# Altium schematic symbol library BLDC_SCH_LIB.SchLib: 30 symbols
Pins are listed as number, name and electrical type; pins without a type are passive.

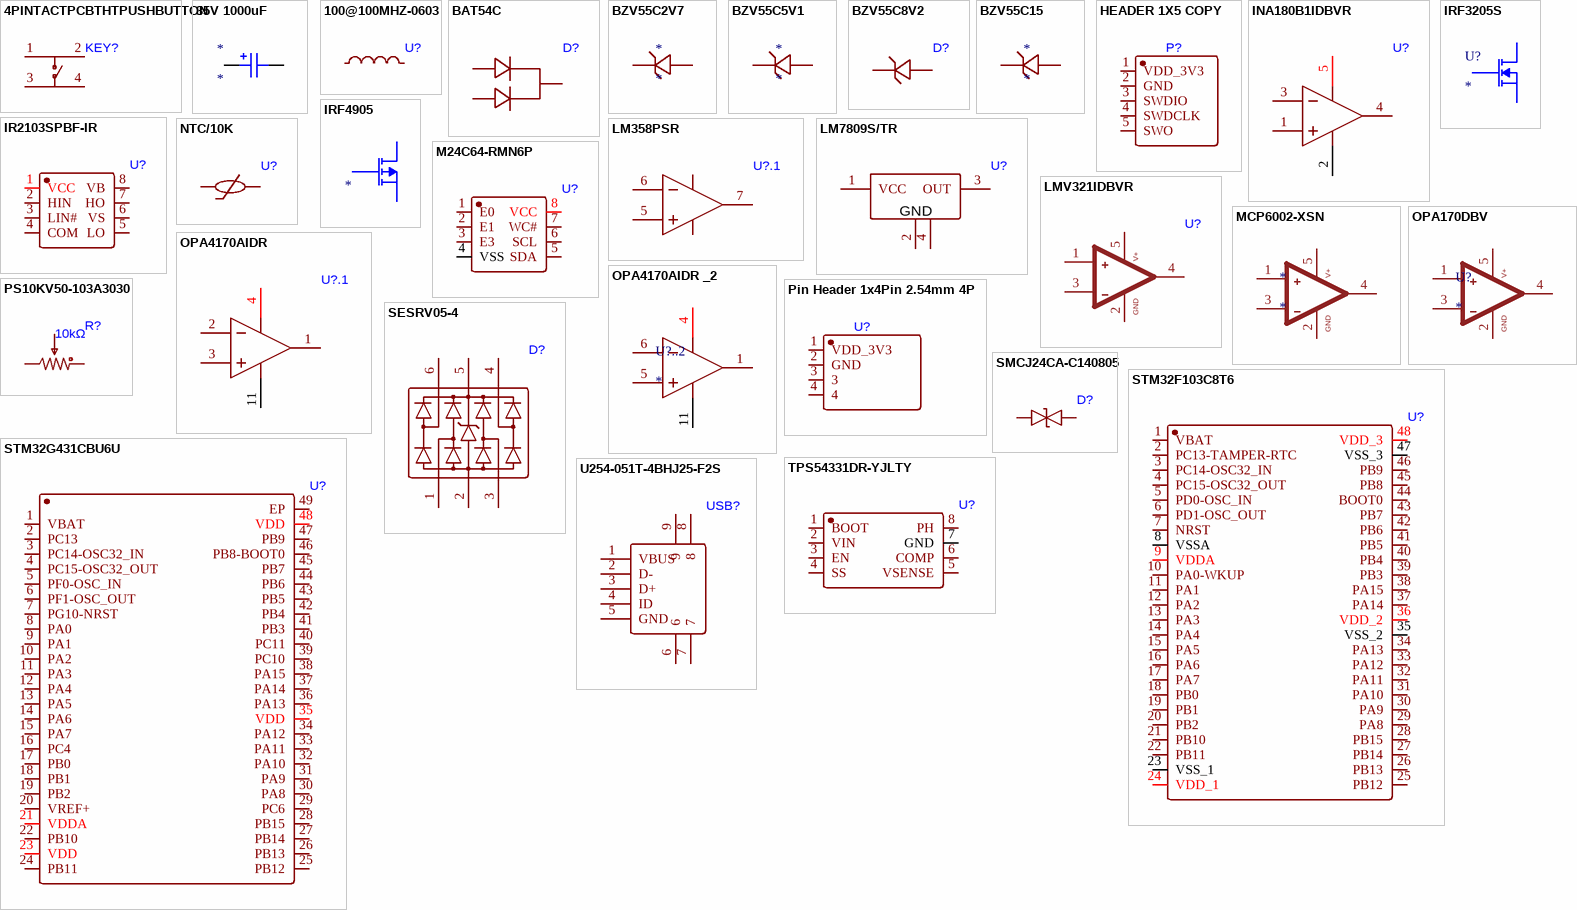
[diagram p0: symbols 4PINTACTPCBTHTPUSHBUTTON to U254-051T-4BHJ25-F2S]

## 4PINTACTPCBTHTPUSHBUTTON
designator KEY?
footprint SW-SMD_4P-L6.0-W6.0-P4.50-LS10.0_TL3301EF160QG
pins: 1, 2, 3, 4

## 35V 1000uF
designator *
footprint 35V 1000uF
pins: 1 in, 2 out

## 100@100MHZ-0603
designator U?
footprint L0603
pins: 1, 2

## BAT54C
designator D?
footprint SOT-23-3_L2.9-W1.6-P1.90-LS2.8-BR
pins: 1 A1, 2 A2, 3 K

## BZV55C2V7
designator *
footprint SOD-80_L3.5-W1.5-RD
pins: 1 C, 2 A

## BZV55C5V1
designator *
footprint SOD-80_L3.5-W1.5-RD
pins: 1 C, 2 A

## BZV55C8V2
designator D?
footprint SOD-80_L3.5-W1.5-RD
pins: 1 C, 2 A

## BZV55C15
designator *
footprint SOD-80_L3.5-W1.5-RD
pins: 1 C, 2 A

## HEADER 1X5 COPY
designator P?
footprint 1X5-PIN-HEADER-2.54MM_ES
pins: 1 VDD_3V3, 2 GND, 3 SWDIO, 4 SWDCLK, 5 SWO

## INA180B1IDBVR
designator U?
footprint SOT-23-5_L2.9-W1.6-P0.95-LS2.8-BR
pins: 1 IN+, 2 GND, 3 IN-, 4 OUT, 5 VS

## IR2103SPBF-IR
designator U?
footprint SOIC-8_IR2103
pins: 1 VCC, 2 HIN, 3 LIN#, 4 COM, 5 LO, 6 VS, 7 HO, 8 VB

## IRF3205S
designator U?
footprint IRF4905
pins: 1 G, 2 D, 3 S

## IRF4905
designator ?
footprint IRF4905
pins: 1 G, 2 D, 3 S

## LM358PSR
designator U?.1
footprint SOIC-8_LM358P
pins: 5 +IN 2, 6 -IN 2, 7 OUT 2

## LM7809S/TR
designator U?
footprint TO-263-3_LM7809
pins: 1 VCC, 2 GND, 3 OUT, 4 GND

## LMV321IDBVR
designator U?
footprint SOT-23-5_LMV324ID
pins: 1 +, 2 GND, 3 -, 4 OUT, 5 V+

## M24C64-RMN6P
designator U?
footprint SOIC-8_L4.9-W3.8-P1.27-LS6.0-BL
pins: 1 E0, 2 E1, 3 E3, 4 VSS, 5 SDA, 6 SCL, 7 WC#, 8 VCC

## MCP6002-XSN
designator *
footprint MSOP-8_MCP6002-XSN
pins: 1 +, 2 GND, 3 -, 4 OUT, 5 V+

## NTC/10K
designator U?
footprint R1210
pins: 1, 2

## OPA170DBV
designator U?
footprint SOT-23-5_L2.9-W1.6-P0.95-LS2.8-BR
pins: 1 +, 2 GND, 3 -, 4 OUT, 5 V+

## OPA4170AIDR
designator U?.1
footprint SOIC-14_OPA4170
pins: 1 OUTA, 2 INA-, 3 INA+, 4 V+, 11 V-

## OPA4170AIDR _2
designator U?..2
footprint SOIC-14_OPA4170
pins: 1 OUTA, 4 V+, 5 INB+, 6 INB-, 11 V-

## Pin Header 1x4Pin 2.54mm 4P
designator U?
footprint PIN HEADER 1X4PIN 2.54MM 4P
pins: 1 VDD_3V3, 2 GND, 3, 4

## PS10KV50-103A3030
designator R?, comment 10kΩ
footprint RES-ADJ-SMD_PS10KV50-104A3030-PM
pins: 1, 2, 3

## SESRV05-4
designator D?
footprint SOT-23-6_L2.9-W1.6-P0.95-LS2.8-BR
pins: 1, 2, 3, 4, 5, 6

## SMCJ24CA-C140805
designator D?
footprint SMC_L6.9-W5.9-LS7.9-BI
pins: 1, 2

## STM32F103C8T6
designator U?
footprint UFQFPN-48_STM32
pins: 1 VBAT, 2 PC13-TAMPER-RTC, 3 PC14-OSC32_IN, 4 PC15-OSC32_OUT, 5 PD0-OSC_IN, 6 PD1-OSC_OUT, 7 NRST, 8 VSSA, 9 VDDA, 10 PA0-WKUP, 11 PA1, 12 PA2, 13 PA3, 14 PA4, 15 PA5, 16 PA6, 17 PA7, 18 PB0, 19 PB1, 20 PB2, 21 PB10, 22 PB11, 23 VSS_1, 24 VDD_1, 25 PB12, 26 PB13, 27 PB14, 28 PB15, 29 PA8, 30 PA9, 31 PA10, 32 PA11, 33 PA12, 34 PA13, 35 VSS_2, 36 VDD_2, 37 PA14, 38 PA15, 39 PB3, 40 PB4, 41 PB5, 42 PB6, 43 PB7, 44 BOOT0, 45 PB8, 46 PB9, 47 VSS_3, 48 VDD_3

## STM32G431CBU6U
designator U?
footprint UFQFPN-48_STM32
pins: 1 VBAT, 2 PC13, 3 PC14-OSC32_IN, 4 PC15-OSC32_OUT, 5 PF0-OSC_IN, 6 PF1-OSC_OUT, 7 PG10-NRST, 8 PA0, 9 PA1, 10 PA2, 11 PA3, 12 PA4, 13 PA5, 14 PA6, 15 PA7, 16 PC4, 17 PB0, 18 PB1, 19 PB2, 20 VREF+, 21 VDDA, 22 PB10, 23 VDD, 24 PB11, 25 PB12, 26 PB13, 27 PB14, 28 PB15, 29 PC6, 30 PA8, 31 PA9, 32 PA10, 33 PA11, 34 PA12, 35 VDD, 36 PA13, 37 PA14, 38 PA15, 39 PC10, 40 PC11, 41 PB3, 42 PB4, 43 PB5, 44 PB6, 45 PB7, 46 PB8-BOOT0, 47 PB9, 48 VDD, 49 EP

## TPS54331DR-YJLTY
designator U?
footprint SOIC-8_TPS54331
pins: 1 BOOT, 2 VIN, 3 EN, 4 SS, 5 VSENSE, 6 COMP, 7 GND, 8 PH

## U254-051T-4BHJ25-F2S
designator USB?
footprint MICRO-USB-SMD_U254-051T-4BHJ25-F2S
pins: 1 VBUS, 2 D-, 3 D+, 4 ID, 5 GND, 6, 7, 8, 9